# Altium schematic symbol library wurth-term-block.SchLib: 2 symbols
Pins are listed as number, name and electrical type; pins without a type are passive.

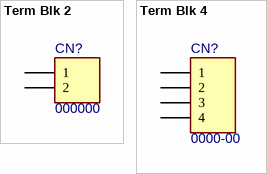
[diagram p0: symbols Term Blk 2 to Term Blk 4]

## Term Blk 2
designator CN?, comment 000000
Terminal Block, Header, 2-Pos; PN: 000000; Package: PTH; Value: *; ExtraInfo: *
footprint 691322110002 (2 Pos, Terminal Block, Header Assembly, 90dg, 3.5mm Pitch)
signal-integrity model Connector
pins: 1, 2

## Term Blk 4
designator CN?, comment 0000-00
Terminal Block, Header, 4-Pos; PN: 0000-00; Value: *; ExtraInfo: *; Package: *
signal-integrity model Connector
footprint 691322110004 (4 Pos, Terminal Block, Header Assembly, 90dg, 3.5mm Pitch)
pins: 1, 2, 3, 4